# Altium schematic symbol library 2020-07-05_08-36-35.SchLib: 2 symbols
Pins are listed as number, name and electrical type; pins without a type are passive.

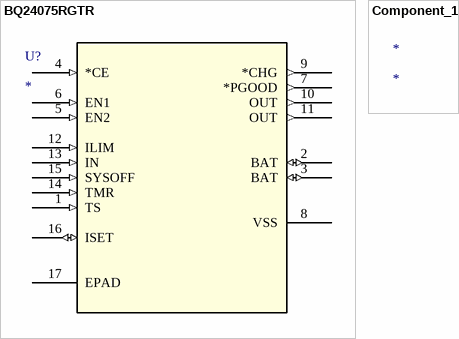
[diagram p0: symbols BQ24075RGTR to Component_1]

## BQ24075RGTR
designator U?
USB-Friendly Li-Ion Battery Charger and Power-Path Management IC, Vout 5.5V; Manufacturer: Texas Instruments; GENERIC_PART_NUMBER: BQ24075; INDUSTRY_STD_PKG_TYPE: QFN; FAMILY_NAME: BATTERY CHARGE MANAGEMENT; PIN_COUNT: 16; PACKAGE_DESIGNATOR: RGT; Datasheet_URL: http://www.ti.com/lit/gpn/BQ24075; Copyright: Copyright (C) 2018 Accelerated Designs. All rights reserved; RefDes: RefDes; Type: DEV
footprint RGT16_1P7X1P7
pins: 1 TS (in), 2 BAT (io), 3 BAT (io), 4 *CE (in), 5 EN2 (in), 6 EN1 (in), 7 *PGOOD (out), 8 VSS (power), 9 *CHG (out), 10 OUT (out), 11 OUT (out), 12 ILIM (in), 13 IN (in), 14 TMR (in), 15 SYSOFF (in), 16 ISET (io), 17 EPAD (power)

## Component_1
designator *